# Altium footprint library Battery.PcbLib: 3 footprints
Each footprint in its own frame and in the unit in brackets; x right, y up, seen from the top. Pads: shape width x height; smd on the part's side, far side on the other; paste and mask are expansions set on the pad; w line width, h text height; cw(c..) or ccw(c..) is an arc to the next point about the centre after c.
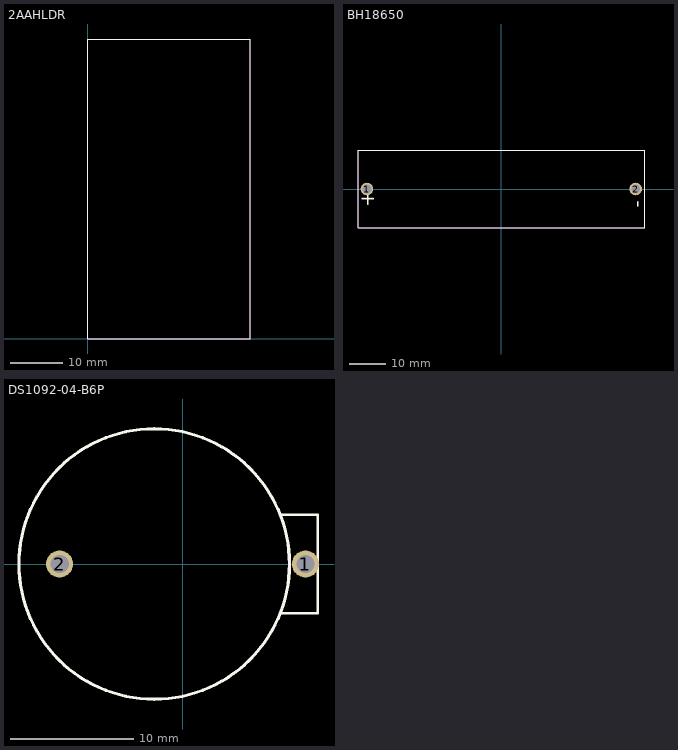
[diagram p0: the footprints below, top view; thin cyan lines are the x and y axes]

## 2AAHLDR [mm] "Battery holder 2xAA"
Top Overlay:
  lines w0.203: 0.025,0 31.225,0 31.225,57.6 0.025,57.6 0.025,0
Mechanical 13:
  lines w0.203: 0.025,0 0.025,57.6 31.225,57.6 31.225,0 0.025,0
  text ".Designator" at 13.6,31.025 h0.51
  text ".Comment" at 14.125,30.1 h0.51
3D body "HH-3632_4upload.STEP": height 15.04, standoff 0.02, extent 0,0 31.191,57.6

## BH18650 [mm]
height 21.31
pads (2):
  round 3.4 hole 2.4 paste-2: 1(-36.45,0) 2(36.45,0)
Top Overlay:
  lines w0.254: -38.85,-10.45 -38.85,10.45 38.85,10.45 38.85,-10.45 -38.85,-10.45
  text "-" at 38.5,-5.05 h4
  text "+" at -34.4,-4.9 h4
Mechanical 13:
  lines w0.254: -38.85,-10.45 38.85,-10.45 38.85,10.45 -38.85,10.45 -38.85,-10.45
  text "+" at -34.4,-4.9 h4
  text "-" at 38.5,-5.05 h4

## DS1092-04-B6P [mm] "DS1092-04-B6P battery holder"
height 8.6
pads (2):
  round 2.2 hole 1.5: 1(10,0) 2(-10,0)
Top Overlay:
  circle w0.254: c-2.3,0 r11
  lines w0.2: 8,-4 11,-4 11,4 8,4
Top Assembly:
  text ".Designator" at -2.325,2.125 h0.51
Top Value:
  text ".Comment" at -1.8,1.2 h0.51
3D body "BH-642.STEP": height 8.51, standoff -4.29, extent -13.45,-11.15 10.85,11.15